# EAGLE library part SDP3X (library Sensors)
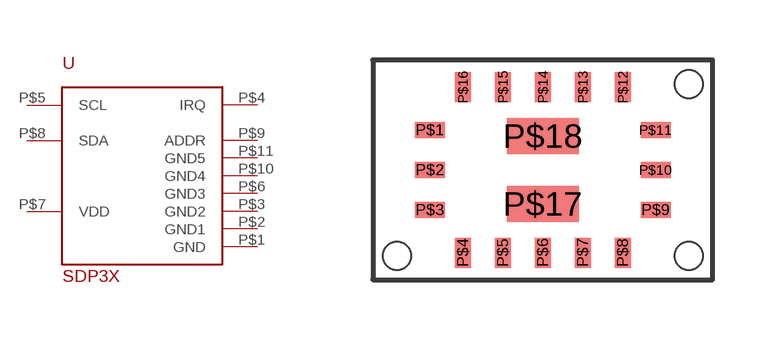
[diagram p0: symbol with the pads of SD3PX; footprint SD3PX]

Designator prefix -

## SDP3X  [SD3PX]
P$1  GND  pwr
P$2  GND1  pwr
P$3  GND2  pwr
P$4  IRQ
P$5  SCL
P$6  GND3  pwr
P$7  VDD  pwr
P$8  SDA
P$9  ADDR
P$10  GND4  pwr
P$11  GND5  pwr

## Footprint SD3PX (pad centres in mm)
smd 0.75 x 0.4: P$1 -2.825,1; P$2 -2.825,0; P$3 -2.825,-1; P$9 2.825,-1; P$10 2.825,0; P$11 2.825,1
smd 0.4 x 0.75: P$4 -2,-2.075; P$5 -1,-2.075; P$6 0,-2.075; P$7 1,-2.075; P$8 2,-2.075; P$12 2,2.075; P$13 1,2.075; P$14 0,2.075; P$15 -1,2.075; P$16 -2,2.075
smd 1.8 x 0.9: P$17 0,-0.85; P$18 0,0.85
hole 0.7 at -3.65,-2.15
hole 0.7 at 3.65,-2.15
hole 0.7 at 3.65,2.15